# Altium integrated library CoinCellBattery holder_1074.IntLib: 1 symbol
Pins are listed as number, name and electrical type; pins without a type are passive.

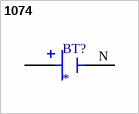
[diagram p0: symbol 1074]

## 1074
designator BT?
MP: 1074; Availability: Unavailable; Price: None; Package: None; Value: *
footprint BAT_1074
pins: N NEG, P_1 POS, P_2 POS